# Altium schematic symbol library MOS.SchLib: 1 symbol
Pins are listed as number, name and electrical type; pins without a type are passive.

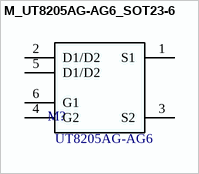
[diagram p0: symbol M_UT8205AG-AG6_SOT23-6]

## M_UT8205AG-AG6_SOT23-6
designator M?  value UT8205AG-AG6  (hidden comment: M_UT8205AG-AG6_SOT23-6)
footprint SOT-23-6
pins: 1 S1, 2 D1/D2, 3 S2, 4 G2, 5 D1/D2, 6 G1